# Altium footprint library PcbLib1.PcbLib: 42 footprints (part 1 of 3)
Each footprint in its own frame and in the unit in brackets; x right, y up, seen from the top. Pads: shape width x height; smd on the part's side, far side on the other; paste and mask are expansions set on the pad; w line width, h text height; cw(c..) or ccw(c..) is an arc to the next point about the centre after c.
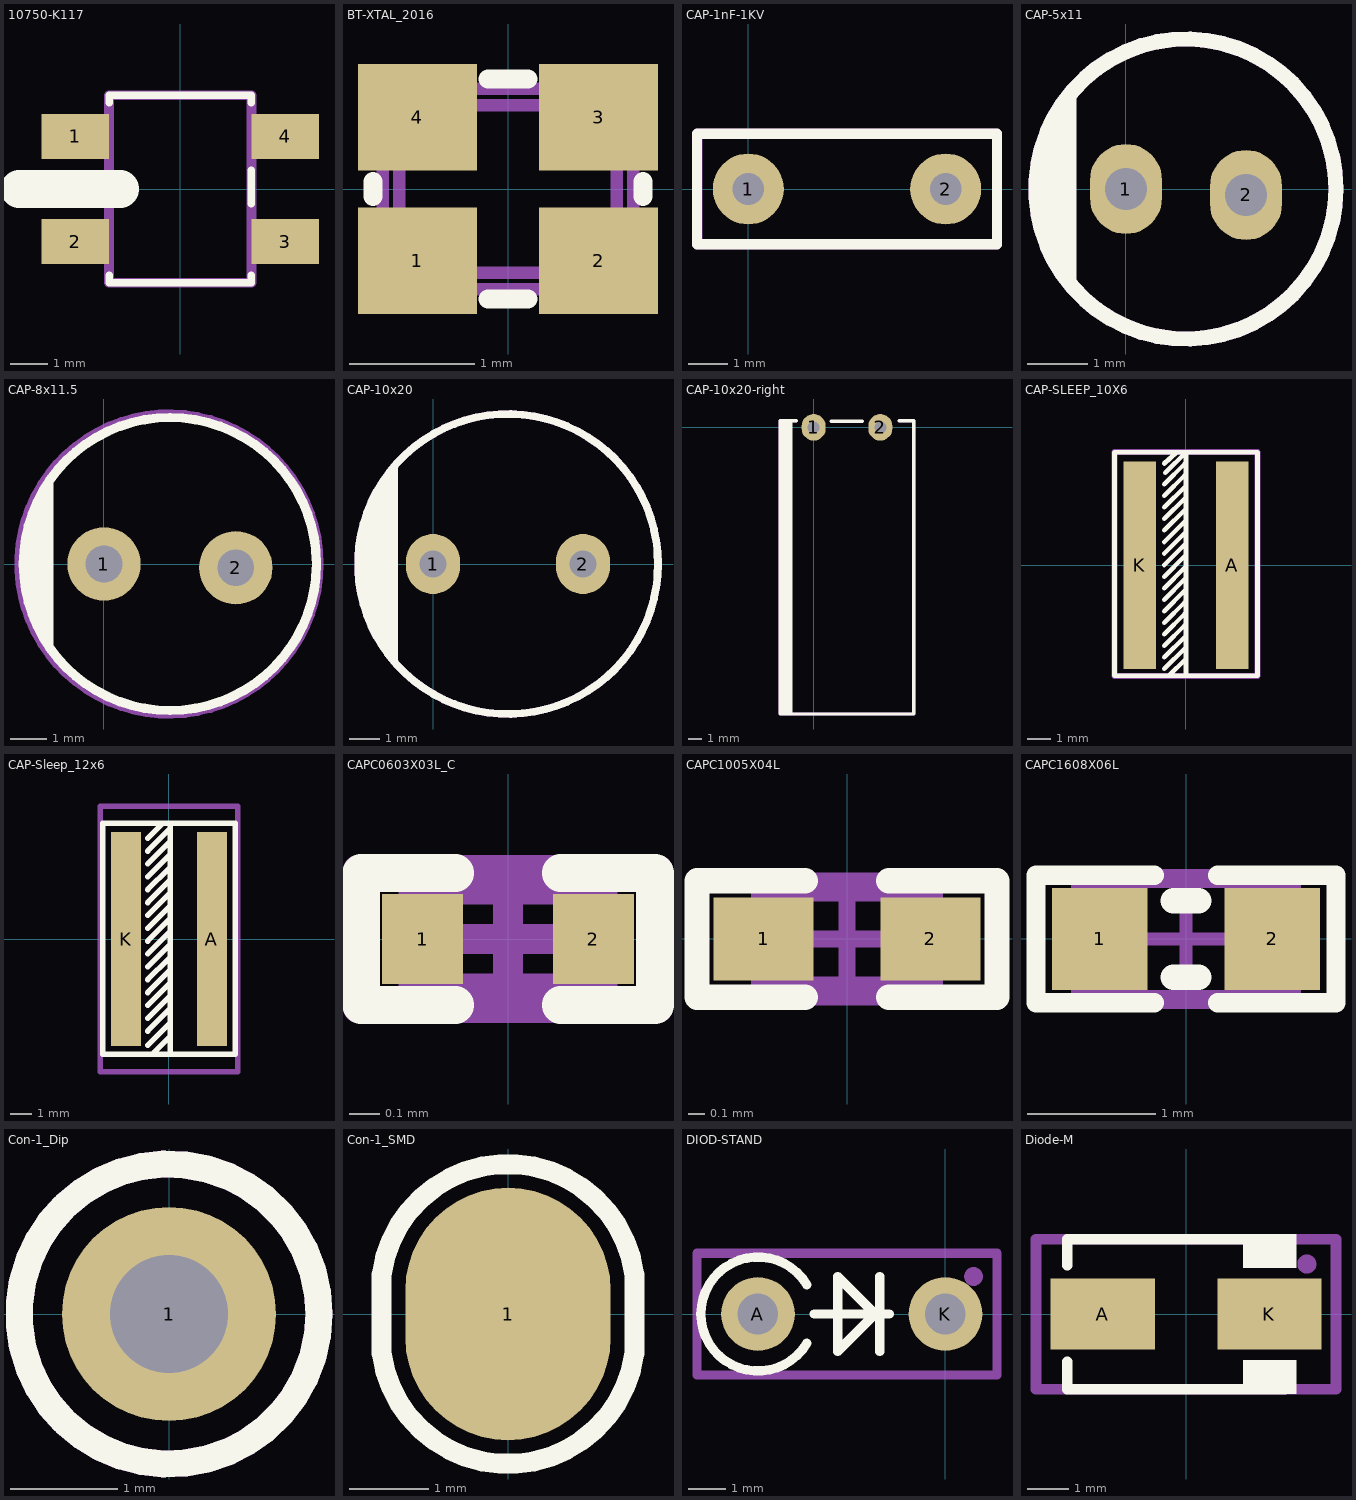
[diagram p0: the footprints below, top view; thin cyan lines are the x and y axes]

## 10750-K117 [mm]
pads (4):
  rect 1.8x1.2 smd: 1(-2.8,1.4) 2(-2.8,-1.4) 3(2.8,-1.4) 4(2.8,1.4)
Top Overlay:
  lines w0.2: -1.9,-2.3 -1.9,-2.5 1.9,-2.5 1.9,-2.3 ; -1.9,2.3 -1.9,2.5 1.9,2.5 1.9,2.3 ; 1.9,-0.4 1.9,0.5
  lines w1: -4.3,0 -1.6,0
Mechanical 29:
  circle w0.254: c-2.8,1.4 r0.1
  lines w0.254: -1.9,-2.5 -1.9,-0.4 ccw(c-1.9,0) -1.9,0.4 -1.9,2.5 1.9,2.5 1.9,-2.5 -1.9,-2.5
  text ".Designator" at -0.8,-0.367 h1

## BT-XTAL_2016 [mm]
pads (4):
  rect 0.95x0.85 smd: 1(-0.725,-0.575) 2(0.725,-0.575) 3(0.725,0.575) 4(-0.725,0.575)
Top Overlay:
  lines w0.152: -1.08,-0.06 -1.08,0.06 ; -0.16,-0.88 0.16,-0.88 ; -0.16,0.88 0.16,0.88 ; 1.08,-0.06 1.08,0.06
Mechanical 29:
  lines w0.1: -1,-0.7 cw(c-1,-0.8) -0.9,-0.8 0.9,-0.8 cw(c1,-0.8) 1,-0.7 1,0.7 cw(c1,0.8) 0.9,0.8 -0.9,0.8 cw(c-1,0.8) -1,0.7 -1,-0.7 ; -0.87,-0.57 ccw(c-0.77,-0.57) -0.77,-0.67 0.77,-0.67 ccw(c0.77,-0.57) 0.87,-0.57 0.87,0.57 ccw(c0.77,0.57) 0.77,0.67 -0.77,0.67 ccw(c-0.77,0.57) -0.87,0.57 -0.87,-0.57
  text ".Designator" at -0.7,-0.2 h0.38
3D body "User Library-GeyerElectronics_KX5.step": height 0.56, standoff 0, extent -1.05,-0.85 1.05,0.85
3D body: height 0.56, standoff 0.15, extent -0.7,-0.65 0.7,0.65

## CAP-1nF-1KV [mm]
pads (2):
  round 1.8 hole 0.8: 1(0,0) 2(5,0)
Top Overlay:
  lines w0.254: -1.3,-1.4 -1.1,-1.4 6.3,-1.4 6.3,1.4 -1.3,1.4 -1.3,-1.4
Mechanical 29:
  lines w0.254: -1.3,-1.4 6.3,-1.4 6.3,1.4 -1.288,1.4 -1.288,-1.388 -1.3,-1.4
  text ".Designator" at 1.254,-0.513 h1
3D body "cap4.STEP": height 7, standoff -1.4, extent -0.5,-0.85 5.5,0.65

## CAP-5x11 [mm]
pads (2):
  oval 1.2x1.5 hole 0.7: 1(0,0) 2(2,-0.1)
Top Overlay:
  circle w0.254: c1,0 r2.5
  lines w0.254: -1.3,-0.975 -1.3,0.825 ; -1.1,-1.225 -1.1,1.25 ; -0.95,-1.525 -0.95,1.525
Mechanical 29:
  circle w0.254: c1,0 r2.5
  circle w0.254: c-1.075,0.05 r0.056
  text ".Designator" at 0.429,0.987 h1
3D body "cap2.STEP": height 11.11, standoff -1.79, extent -1.5,-2.5 3.5,2.5

## CAP-8x11.5 [mm]
pads (2):
  round 2 hole 1: 1(0,0) 2(3.6,-0.1)
Top Overlay:
  circle w0.254: c1.8,0 r4
  lines w0.254: -2.1,-0.8 -2.1,0.6 ; -1.9,-1.5 -1.9,1.3 ; -1.7,-1.9 -1.7,1.7 ; -1.5,-2.2 -1.5,2.2
Mechanical 29:
  circle w0.254: c-1.775,0.05 r0.127
  circle w0.254: c1.775,0 r4.095
  text ".Designator" at 1.504,1.312 h1
3D body "cap1.STEP": height 12, standoff -1.9, extent -2.225,-4 5.775,4

## CAP-10x20 [mm]
pads (2):
  oval 1.8x2 hole 0.9: 1(0,0) 2(5,0)
Top Overlay:
  circle w0.254: c2.5,0 r5
  lines w0.254: -2.3,-1.3 -2.3,1.2 ; -2.1,-1.9 -2.1,1.8 ; -1.9,-2.3 -1.9,2.3 ; -1.7,-2.7 -1.7,2.6 ; -1.501,-2.999 -1.501,2.934 ; -1.3,-3.2 -1.3,3.2
Mechanical 29:
  circle w0.254: c2.5,0 r5
  circle w0.254: c-1.9,0.1 r0.1
  text ".Designator" at 2.913,-1.946 h1
3D body "cap3-2.STEP": height 20.31, standoff -1.59, extent -2.5,-5 7.5,5

## CAP-10x20-right [mm]
pads (2):
  oval 1.8x2 hole 0.9: 1(0,0) 2(5,0)
Top Overlay:
  lines w0.254: -2.3,-21.4 -2.3,0.4 ; -2.1,-21.4 -2.1,0.4 ; -1.9,-21.4 -1.9,0.5 ; -1.7,-21.4 -1.7,0.4 ; -1.3,0.5 -2.5,0.5 -2.5,-21.5 7.5,-21.5 7.5,0.5 6.4,0.5 ; 1.332,0.444 3.664,0.444
Mechanical 29:
  circle w0.254: c-1.9,-0.1 r0.1
  lines w0.254: -1.3,0.5 -2.5,0.5 -2.5,-21.5 7.5,-21.5 7.5,0.5 6.4,0.5
  text ".Designator" at 0.854,-2.413 h1
3D body "cap3.STEP": height 13, standoff -0.97, extent -2.5,-21.512 7.5,0.462

## CAP-SLEEP_10X6 [mm]
pads (2):
  rect 1.4x9 smd: A(2,0) K(-2,0)
Top Overlay:
  lines w0.2: -0.943,-4.495 -0.043,-3.595 ; -0.943,-3.995 -0.043,-3.095 ; -0.943,-3.495 -0.043,-2.595 ; -0.943,-2.995 -0.043,-2.095 ; -0.943,-2.495 -0.043,-1.595 ; -0.943,-1.995 -0.043,-1.095 ; -0.943,-1.495 -0.043,-0.595 ; -0.943,-0.995 -0.043,-0.095 ; -0.943,-0.495 -0.043,0.405 ; -0.943,0.005 -0.043,0.905 ; -0.943,0.505 -0.043,1.405 ; -0.943,1.005 -0.043,1.905 ; -0.943,1.505 -0.043,2.405 ; -0.943,2.005 -0.043,2.905 ; -0.943,2.505 -0.043,3.405 ; -0.943,3.005 -0.043,3.905 ; -0.943,3.505 -0.043,4.405 ; -0.943,4.405 -0.4,4.9 ; -0.9,4 0,4.9 ; -0.724,-4.776 -0.043,-4.095 ; 0,-4.8 0,4.9 ; 0,4.8 0,4.9 ; -3.1,-4.8 -3.1,4.9 3.1,4.9 3.1,-4.8 -3.1,-4.8
Mechanical 29:
  circle w0.254: c-2,0 r0.1
  lines w0.254: -3.1,-4.8 -3.1,4.9 3.1,4.9 3.1,-4.8 -3.1,-4.8
  text ".Designator" at 0.367,-1.2 h1
3D body "cap2.STEP": height 7.2, standoff 0.8, extent -3.2,-4.9 3.2,5.1

## CAP-Sleep_12x6 [mm]
pads (2):
  rect 1.4x10 smd: A(2,0) K(-2,0)
Top Overlay:
  lines w0.254: -1,-4.3 0,-3.3 ; -1,-3.7 0,-2.7 ; -1,-3.1 0,-2.1 ; -1,-2.5 0,-1.5 ; -1,-1.9 0,-0.9 ; -1,-1.3 0,-0.3 ; -1,-0.7 0,0.3 ; -1,-0.1 0,0.9 ; -1,0.5 0,1.5 ; -1,1.1 0,2.1 ; -1,1.7 0,2.7 ; -1,2.3 0,3.3 ; -1,2.9 0,3.9 ; -1,3.5 0,4.5 ; -1,4.1 0,5.1 ; -1,4.7 -0.35,5.35 ; -0.998,-4.965 0.002,-3.965 ; -0.75,-5.35 0,-4.6 ; 0.05,-5.3 0.05,5.4 ; -3.1,-5.375 -3.1,5.4 3.1,5.4 3.1,-5.375 -3.1,-5.375
Mechanical 29:
  circle w0.254: c-2,0 r0.1
  lines w0.254: -3.2,-6.2 3.2,-6.2 3.2,6.2 -3.2,6.2 -3.2,-6.2
  text ".Designator" at 0.367,-1.7 h1
3D body "cap1.STEP": height 7.2, standoff 0.8, extent -3.2,-6.2 3.2,6.2

## CAPC0603X03L_C [mm]
pads (2):
  rect 0.27x0.3 smd: 1(-0.285,0) 2(0.285,0)
Top Overlay:
  lines w0.125: -0.175,-0.22 -0.49,-0.22 -0.49,0.22 -0.175,0.22 ; 0.175,-0.22 0.49,-0.22 0.49,0.22 0.175,0.22
Mechanical 7:
  lines w0.1: -0.315,-0.165 0.315,-0.165 0.315,0.165 -0.315,0.165 -0.315,-0.165
  text ".Designator" at 1.219,0.152 h0.3
Mechanical 15:
  lines w0.1: -0.165,0 0.165,0 ; 0,-0.165 0,0.165 ; -0.5,-0.23 0.5,-0.23 0.5,0.23 -0.5,0.23 -0.5,-0.23
3D body "User Library-0201(0603M) Cap.step": height 0.3, standoff -0.01, extent -0.305,-0.152 0.305,0.153

## CAPC1005X04L [mm]
pads (2):
  rect 0.6x0.5 smd: 1(-0.5,0) 2(0.5,0)
Top Overlay:
  lines w0.152: -0.25,-0.35 -0.9,-0.35 -0.9,0.35 -0.25,0.35 ; 0.25,-0.35 0.9,-0.35 0.9,0.35 0.25,0.35
Mechanical 7:
  lines w0.1: -0.525,-0.275 -0.525,0.275 0.525,0.275 0.525,-0.275 -0.525,-0.275
  text ".Designator" at -0.406,-0.152 h0.3
Mechanical 15:
  lines w0.1: -0.275,0 0.275,0 ; 0,-0.275 0,0.275 ; -0.9,-0.35 0.9,-0.35 0.9,0.35 -0.9,0.35 -0.9,-0.35
3D body "User Library-0402(1005M) Cap.step": height 0.5, standoff -0.01, extent -0.508,-0.254 0.508,0.254

## CAPC1608X06L [mm]
pads (2):
  rect 0.75x0.8 smd: 1(-0.675,0) 2(0.675,0)
Top Overlay:
  lines w0.152: -0.25,-0.5 -1.175,-0.5 -1.175,0.5 -0.25,0.5 ; 0.25,-0.5 1.175,-0.5 1.175,0.5 0.25,0.5
  lines w0.2: -0.1,-0.3 0.1,-0.3 ; -0.1,0.3 0.1,0.3
Mechanical 7:
  lines w0.1: -0.85,-0.45 0.85,-0.45 0.85,0.45 -0.85,0.45 -0.85,-0.45
  text ".Designator" at 0.392,0.152 h0.3
Mechanical 15:
  lines w0.1: -0.45,0 0.45,0 ; 0,-0.45 0,0.45 ; -1.175,-0.5 -1.175,0.5 1.175,0.5 1.175,-0.5 -1.175,-0.5
3D body "User Library-Chip Capacitor 0603.step": height 0.8, standoff 0, extent -0.8,-0.43 0.8,0.43

## Con-1_Dip [mm]
pads (1):
  round 2 hole 1.1: 1(0,0)
Top Overlay:
  circle w0.254: c0,0 r1.4
Mechanical 29:
  circle w0.254: c0,0 r1.4

## Con-1_SMD [mm]
pads (1):
  oval 2.6x3.2 smd: 1(0,0)
Top Overlay:
  lines w0.254: -1.6,-0.5 ccw(c0,-0.286) 1.6,-0.5 1.6,0.5 ccw(c0,0.286) -1.6,0.5 -1.6,-0.5

## DIOD-STAND [mm]
pads (2):
  round 2 hole 1.1: A(-5.08,0) K(0,0)
Top Overlay:
  lines w0.254: -3.755,-0.795 cw(c-5.08,0) -3.755,0.795 ; -3.556,0 -1.778,0 ; -1.778,-1.016 -1.778,1.016 ; -1.524,0 -1.905,0 ; -1.905,0 -2.921,-1.016 -2.921,1.016 -1.905,0
Mechanical 29:
  circle w0.254: c0.762,1.016 r0.127
  lines w0.254: -6.731,-1.651 1.397,-1.651 1.397,1.651 -6.731,1.651 -6.731,-1.651
  text ".Designator" at -4.572,-0.429 h1
3D body "stand-diod.STEP": height 7.78, standoff -1.5, extent -5.48,-1.505 1.425,1.505

## Diode-M [mm]
pads (2):
  rect 2.5x1.7 smd: A(-2,0) K(2,0)
Top Overlay:
  rectangle: 1.372,-1.923 2.65,-1.098
  rectangle: 1.372,1.1 2.65,1.925
  lines w0.254: -2.852,-1.8 2.375,-1.8 ; -2.852,-1.777 -2.852,-1.146 ; -2.848,1.168 -2.848,1.8 -2.7,1.8 2.375,1.8 ; 2.375,1.8 2.375,1.8
Mechanical 29:
  circle w0.254: c2.9,1.2 r0.1
  lines w0.254: -3.6,-1.8 3.6,-1.8 3.6,1.6 3.6,1.8 -1,1.8 -3.6,1.8 -3.6,-1.8
  text ".Designator" at -1.646,-0.413 h1
3D body "Diode SMD 1N4007-1.step": height 2.5, standoff 0.07, extent -2.65,-1.555 2.65,1.555